# EAGLE library part TS30041-M (library IoTMakers)
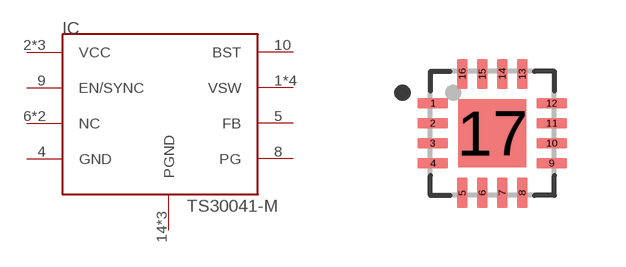
[diagram p15: symbol with the pads of QFN50P300X300X100-17N; footprint QFN50P300X300X100-17N]

Designator prefix IC

## TS30041-M  [QFN50P300X300X100-17N]
1  VSW
2  VCC
3  VCC
4  GND
5  FB
6  NC
7  NC
8  PG
9  EN/SYNC
10  BST
11  VCC
12  VSW
13  VSW
14  PGND
15  PGND
16  VSW
17  PGND

## Footprint QFN50P300X300X100-17N (pad centres in mm)
smd 0.76 x 0.26: 1 -1.485,0.75; 2 -1.485,0.25; 3 -1.485,-0.25; 4 -1.485,-0.75; 9 1.485,-0.75; 10 1.485,-0.25; 11 1.485,0.25; 12 1.485,0.75
smd 0.26 x 0.76: 5 -0.75,-1.485; 6 -0.25,-1.485; 7 0.25,-1.485; 8 0.75,-1.485; 13 0.75,1.485; 14 0.25,1.485; 15 -0.25,1.485; 16 -0.75,1.485
smd 1.7 x 1.7: 17 0,0